# EAGLE library part TLV1704AMPWTPSEP (library U-TLV1704-SEP_WatchDog)
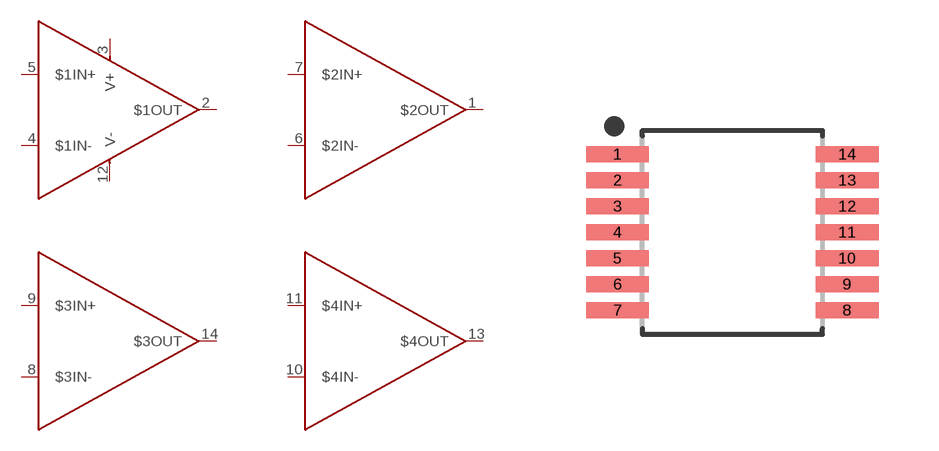
[diagram p0: symbol with the pads of SOP65P640X120-14N; footprint SOP65P640X120-14N]

Designator prefix -; gates G$1=COMPARATOR G$2=COMPARATOR_2 G$3=COMPARATOR_3 G$4=COMPARATOR_4

## TLV1704AMPWTPSEPTSSOP-14  [SOP65P640X120-14N]
1  G$2:$2OUT
2  G$1:$1OUT
3  G$1:V+
4  G$1:$1IN-
5  G$1:$1IN+
6  G$2:$2IN-
7  G$2:$2IN+
8  G$3:$3IN-
9  G$3:$3IN+
10  G$4:$4IN-
11  G$4:$4IN+
12  G$1:V-
13  G$4:$4OUT
14  G$3:$3OUT

## Footprint SOP65P640X120-14N (pad centres in mm)
14-SOP, 0.65 mm pitch, 6.40 mm span, 5.00 X 4.40 X 1.20 mm body 14-pin SOP package with 0.65 mm pitch, 6.40 mm span with body size 5.00 X 4.40 X 1.20 mm
smd 1.572 x 0.407: 1 -2.872,1.95; 2 -2.872,1.3; 3 -2.872,0.65; 4 -2.872,0; 5 -2.872,-0.65; 6 -2.872,-1.3; 7 -2.872,-1.95; 8 2.872,-1.95; 9 2.872,-1.3; 10 2.872,-0.65; 11 2.872,0; 12 2.872,0.65; 13 2.872,1.3; 14 2.872,1.95